# Altium schematic symbol library VCC24T5.SchLib: 1 symbol
Pins are listed as number, name and electrical type; pins without a type are passive.

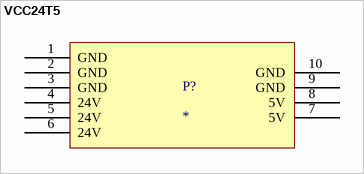
[diagram p0: symbol VCC24T5]

## VCC24T5
designator P?
footprint VCC24T5
pins: 1 GND, 2 GND, 3 GND, 4 24V, 5 24V, 6 24V, 7 5V, 8 5V, 9 GND, 10 GND